# Altium schematic symbol library Labotronik.SchLib: 30 symbols
Pins are listed as number, name and electrical type; pins without a type are passive.

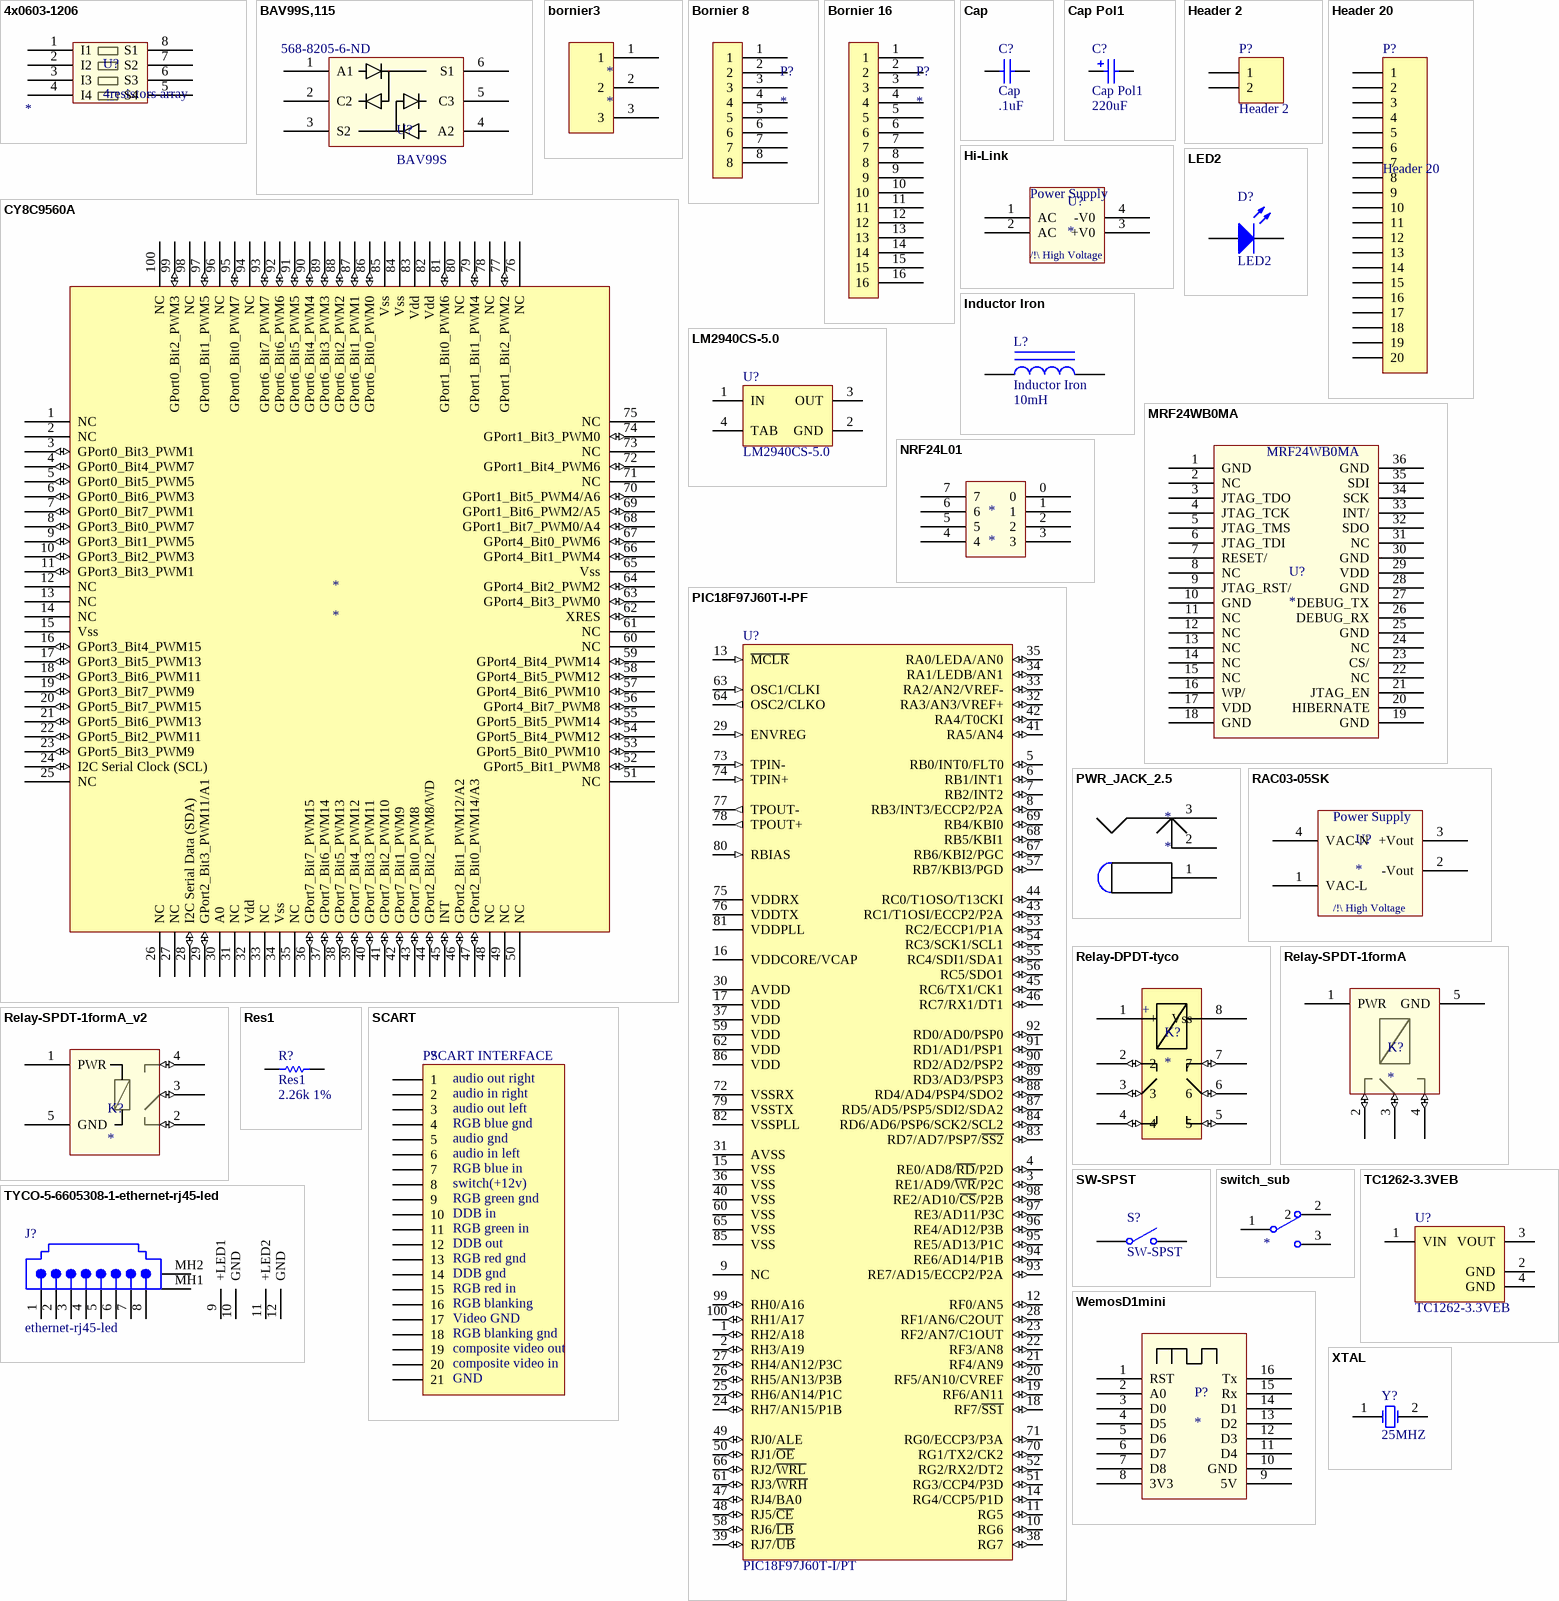
[diagram p0: symbols 4x0603-1206 to XTAL]

## 4x0603-1206
designator U?, comment 4resistors array
4x0603; Supplier Part Number 1: *; Value: *
footprint array 4x0603 (8 resitors  - 0602 x8)
pins: 1 I1, 2 I2, 3 I3, 4 I4, 5 S4, 6 S3, 7 S2, 8 S1

## BAV99S,115
designator U?, comment BAV99S  Supplier Part Number 1: 568-8205-6-ND
2 pair series diode; Supplier 1: Digi-Key
footprint SOT363-6N (SOT363, 6-Leads, Body 2x1.3mm, Pitch 0.65mm, Lead Span 2.1mm, IPC Medium Density)
footprint SOT363-6N (SOT363, 6-Leads, Body 2x1.3mm, Pitch 0.65mm, Lead Span 2.1mm, IPC Medium Density)
pins: 1 A1, 2 C2, 3 S2, 4 A2, 5 C3, 6 S1

## bornier3
designator *
pins: 1, 2, 3

## Bornier 8
designator P?
Bornier 8 - phoenix contact - 1990067
pins: 1, 2, 3, 4, 5, 6, 7, 8

## Bornier 16
designator P?
Bornier 16
pins: 1, 2, 3, 4, 5, 6, 7, 8, 9, 10, 11, 12, 13, 14, 15, 16

## Cap
designator C?  value .1uF
Capacitor; Published: 8-Jun-2000; LatestRevisionDate: 17-Jul-2002; LatestRevisionNote: Re-released for DXP Platform.; PackageReference: RAD-0.3; Publisher: Altium Limited
footprint RAD-0.3 (Radial Cap, Thru-Hole; 2 Leads; 0.3 in Pin Spacing)
footprint CAPR2.54-5.1x3.2 (Capacitor, Ceramic, Thru-Hole, Dipped Radial; Body 5.1 x 3.2 mm (WxT) Pin Spacing 2.54 mm (typ))
footprint CAPR5.08-7.8x3.2 (Capacitor, Ceramic, Thru-Hole, Dipped Radial; Body 7.8 x 3.2 mm (WxT) Pin Spacing 5.08 mm (typ))
simulation model CAP (Capacitor)
signal-integrity model Cap
pins: 1, 2

## Cap Pol1
designator C?  value 220uF
Polarized Capacitor (Radial); Published: 8-Jun-2000; LatestRevisionDate: 17-Jul-2002; LatestRevisionNote: Re-released for DXP Platform.; PackageReference: RB7.6-15; Publisher: Altium Limited
footprint RB7.6-15 (Polarized Capacitor (Radial); 2 Leads)
footprint CAPPR1.27-1.7x2.8 (Capacitor, Radial, Tantalum; Body 1.7 x 2.8 mm (Dia.xH max); Pin Spacing 1.27 mm (typ))
footprint CAPPR1.5-4x5 (Capacitor, Electrolytic, Radial; Body 4 x 5 mm (Dia.xH typ); Pin Spacing 1.5 mm (typ))
footprint CAPPR2-5x6.8 (Capacitor, Electrolytic, Radial; Body 5 x 6.8 mm (Dia.xH typ); Pin Spacing 2 mm (typ))
footprint CAPPR5-5x5 (Capacitor, Electrolytic, Radial; Body 5 x 5 mm (Dia.xH typ); Pin Spacing 5 mm (typ))
footprint CAPPR7.5-16x35 (Capacitor, Electrolytic, Radial; Body 16 x 35 mm (Dia.xH typ); Pin Spacing 7.5 mm (typ))
simulation model CAP (Capacitor)
signal-integrity model Cap Pol
pins: 1, 2
1 alternate drawing of the same symbol

## CY8C9560A
designator *
footprint TQFP-PF100_M (Thin QFP, 100-Leads, Body 14x14mm, Pitch 0.5mm, IPC Low Density)
pins: 1 NC, 2 NC, 3 GPort0_Bit3_PWM1 (io), 4 GPort0_Bit4_PWM7 (io), 5 GPort0_Bit5_PWM5 (io), 6 GPort0_Bit6_PWM3 (io), 7 GPort0_Bit7_PWM1 (io), 8 GPort3_Bit0_PWM7 (io), 9 GPort3_Bit1_PWM5 (io), 10 GPort3_Bit2_PWM3 (io), 11 GPort3_Bit3_PWM1 (io), 12 NC, 13 NC, 14 NC, 15 Vss, 16 GPort3_Bit4_PWM15 (io), 17 GPort3_Bit5_PWM13 (io), 18 GPort3_Bit6_PWM11 (io), 19 GPort3_Bit7_PWM9 (io), 20 GPort5_Bit7_PWM15 (io), 21 GPort5_Bit6_PWM13 (io), 22 GPort5_Bit2_PWM11 (io), 23 GPort5_Bit3_PWM9 (io), 24 I2C Serial Clock (SCL) (io), 25 NC, 26 NC, 27 NC, 28 I2C Serial Data (SDA) (io), 29 GPort2_Bit3_PWM11/A1 (io), 30 A0, 31 NC, 32 Vdd, 33 NC, 34 Vss, 35 NC, 36 GPort7_Bit7_PWM15 (io), 37 GPort7_Bit6_PWM14 (io), 38 GPort7_Bit5_PWM13 (io), 39 GPort7_Bit4_PWM12 (io), 40 GPort7_Bit3_PWM11 (io), 41 GPort7_Bit2_PWM10 (io), 42 GPort7_Bit1_PWM9 (io), 43 GPort7_Bit0_PWM8 (io), 44 GPort2_Bit2_PWM8/WD (io), 45 INT (io), 46 GPort2_Bit1_PWM12/A2 (io), 47 GPort2_Bit0_PWM14/A3 (io), 48 NC, 49 NC, 50 NC, 51 NC, 52 GPort5_Bit1_PWM8 (io), 53 GPort5_Bit0_PWM10 (io), 54 GPort5_Bit4_PWM12 (io), 55 GPort5_Bit5_PWM14 (io), 56 GPort4_Bit7_PWM8 (io), 57 GPort4_Bit6_PWM10 (io), 58 GPort4_Bit5_PWM12 (io), 59 GPort4_Bit4_PWM14 (io), 60 NC, 61 NC, 62 XRES (io), 63 GPort4_Bit3_PWM0 (io), 64 GPort4_Bit2_PWM2 (io), 65 Vss, 66 GPort4_Bit1_PWM4 (io), 67 GPort4_Bit0_PWM6 (io), 68 GPort1_Bit7_PWM0/A4 (io), 69 GPort1_Bit6_PWM2/A5 (io), 70 GPort1_Bit5_PWM4/A6 (io), 71 NC, 72 GPort1_Bit4_PWM6 (io), 73 NC, 74 GPort1_Bit3_PWM0 (io), 75 NC, 76 NC, 77 GPort1_Bit2_PWM2 (io), 78 NC, 79 GPort1_Bit1_PWM4 (io), 80 NC, 81 GPort1_Bit0_PWM6 (io), 82 Vdd, 83 Vdd, 84 Vss, 85 Vss, 86 GPort6_Bit0_PWM0 (io), 87 GPort6_Bit1_PWM1 (io), 88 GPort6_Bit2_PWM2 (io), 89 GPort6_Bit3_PWM3 (io), 90 GPort6_Bit4_PWM4 (io), 91 GPort6_Bit5_PWM5 (io), 92 GPort6_Bit6_PWM6 (io), 93 GPort6_Bit7_PWM7 (io), 94 NC, 95 GPort0_Bit0_PWM7 (io), 96 NC, 97 GPort0_Bit1_PWM5 (io), 98 NC, 99 GPort0_Bit2_PWM3 (io), 100 NC

## Header 2
designator P?
Header, 2-Pin; LatestRevisionDate: 17-Jul-2002; LatestRevisionNote: Re-released for DXP Platform.; Publisher: Altium Limited
footprint HDR1X2 (Connector; Header; 2 Position)
signal-integrity model Connector
footprint HEADER-1x2-ED2427 (bornier 1x2 ref.ED2427)
3D model Model Name (Model Description)
pins: 1, 2

## Header 20
designator P?
Header, 20-Pin; LatestRevisionDate: 17-Jul-2002; LatestRevisionNote: Re-released for DXP Platform.; Publisher: Altium Limited
footprint HDR1X6 (Connector; Header; 6 Position)
signal-integrity model Connector
pins: 1, 2, 3, 4, 5, 6, 7, 8, 9, 10, 11, 12, 13, 14, 15, 16, 17, 18, 19, 20

## Hi-Link
designator U?
HLK-5M12 - Hi-Link 220vAC to 12VDC module
pins: 1 AC, 2 AC, 3 +V0, 4 -V0
text: Power Supply; /!\ High Voltage

## Inductor Iron
designator L?  value 10mH
Magnetic-Core Inductor; Published: 24-Mar-1999; LatestRevisionDate: 17-Jul-2002; LatestRevisionNote: Re-released for DXP Platform.; PackageReference: AXIAL-0.9; Publisher: Altium Limited
footprint AXIAL-0.9 (Axial Device, Thru-Hole; 2 Leads; 0.9 in Pin Spacing)
simulation model INDUCTOR (Inductor)
signal-integrity model Inductor Iron
pins: 1, 2

## LED2
designator D?
Typical RED, GREEN, YELLOW, AMBER GaAs LED; Published: 8-Jun-2000; LatestRevisionDate: 17-Jul-2002; LatestRevisionNote: Re-released for DXP Platform.; PackageVersion: Feb-2002; PackageReference: 3.2X1.6X1.1; Publisher: Altium Limited
footprint DSO-F2/D6.1 (SMT LED; 2 Flat Leads)
simulation model LED2 (Diode)
footprint LED 0805 (led CMS 0805)
pins: 1 A, 2 K

## LM2940CS-5.0
designator U?
1A Low Dropout Regulator; Manufacturer: National Semiconductor; CompType: LDO IC; PackageTopMarking: NSUZXYTTE#*LM2940CS*-5.0 P+; PowerWise: N; Published: 4-Dec-2008; DatasheetVersion: Jan-2007; PackageVersion: revF, Apr-2005; PackageReference: TS3B; Publisher: Altium Limited; PackageDescription: TO-263, Molded, .400 x .390 x .180in, 3 Lead, .1in Pitch, Surface Mount; PartNumber: LM2940CS-5.0; RoHS: O; PinCount: 3; DigiKeyPartNumber: LM2940CS-5.0-ND; Code_JEDEC: MO-169-AA; ComponentLink1Description: LM2940C Datasheet; ComponentLink1URL: http://www.national.com/ds/LM/LM2940C.pdf; ComponentLink2Description: LM2940C Web Page; ComponentLink2URL: http://www.national.com/pf/LM/LM2940C.html; ComponentLink3Description: TS3B Package Page; ComponentLink3URL: http://www.national.com/packaging/folders/ts3b.html
footprint TS3B_N (D2-PAK, 4-Leads, Body 8.6x10.2mm, Pitch 2.54mm, Lead Span 14.2mm, IPC Medium Density)
footprint TS3B_L (D2-PAK, 4-Leads, Body 8.6x10.2mm, Pitch 2.54mm, Lead Span 14.2mm, IPC High Density)
footprint TS3B_M (D2-PAK, 4-Leads, Body 8.6x10.2mm, Pitch 2.54mm, Lead Span 14.2mm, IPC Low Density)
pins: 1 IN (power), 2 GND (power), 3 OUT (power), 4 TAB (power)

## MRF24WB0MA
designator U?
WIFI Module
footprint MRF24WB0MA
pins: 1 GND (power), 2 NC, 3 JTAG_TDO, 4 JTAG_TCK, 5 JTAG_TMS, 6 JTAG_TDI, 7 RESET/, 8 NC, 9 JTAG_RST/, 10 GND, 11 NC, 12 NC, 13 NC, 14 NC, 15 NC, 16 WP/, 17 VDD, 18 GND, 19 GND, 20 HIBERNATE, 21 JTAG_EN, 22 NC, 23 CS/, 24 NC, 25 GND, 26 DEBUG_RX, 27 DEBUG_TX, 28 GND, 29 VDD, 30 GND, 31 NC, 32 SDO, 33 INT/, 34 SCK, 35 SDI, 36 GND (power)

## NRF24L01
designator *
pins: 0, 1, 2, 3, 4, 5, 6, 7

## PIC18F97J60T-I-PF
designator U?, comment PIC18F97J60T-I/PT
1-Mbit Flash Microcontroller with Ethernet, 128K Flash, 100-Pin TQFP; Published: 29-Jan-2009; DatasheetVersion: revD, Feb-2008; PackageVersion: revAW, Oct-2008; PackageReference: TQFP-PT100; Publisher: Altium Limited; PackageDescription: 100-Lead Plastic Thin Quad Flatpack (PT) - 12x12x1mm Body, 2.00mm [TQFP]; ComponentLink1Description: Manufacturer Link; ComponentLink1URL: http://www.microchip.com; ComponentLink2Description: Datasheet; ComponentLink2URL: http://ww1.microchip.com/downloads/en/DeviceDoc/39762d.pdf; ComponentLink3Description: Packaging Specification; ComponentLink3URL: http://ww1.microchip.com/downloads/en/PackagingSpec/00049AW.pdf
footprint TQFP-PT100_N (Thin QFP, 100-Leads, Body 12x12mm, Pitch 0.4mm, IPC Medium Density)
footprint TQFP-PT100_L (Thin QFP, 100-Leads, Body 12x12mm, Pitch 0.4mm, IPC High Density)
footprint TQFP-PT100_M (Thin QFP, 100-Leads, Body 12x12mm, Pitch 0.4mm, IPC Low Density)
pins: 1 RH2/A18 (io), 2 RH3/A19 (io), 3 RE1/AD9/~{WR}/P2C (io), 4 RE0/AD8/~{RD}/P2D (io), 5 RB0/INT0/FLT0 (io), 6 RB1/INT1 (io), 7 RB2/INT2 (io), 8 RB3/INT3/ECCP2/P2A (io), 9 NC, 10 RG6 (io), 11 RG5 (io), 12 RF0/AN5 (io), 13 ~{MCLR} (in), 14 RG4/CCP5/P1D (io), 15 VSS (power), 16 VDDCORE/VCAP (power), 17 VDD (power), 18 RF7/~{SS1} (io), 19 RF6/AN11 (io), 20 RF5/AN10/CVREF (io), 21 RF4/AN9 (io), 22 RF3/AN8 (io), 23 RF2/AN7/C1OUT (io), 24 RH7/AN15/P1B (io), 25 RH6/AN14/P1C (io), 26 RH5/AN13/P3B (io), 27 RH4/AN12/P3C (io), 28 RF1/AN6/C2OUT (io), 29 ENVREG (in), 30 AVDD (power), 31 AVSS (power), 32 RA3/AN3/VREF+ (io), 33 RA2/AN2/VREF- (io), 34 RA1/LEDB/AN1 (io), 35 RA0/LEDA/AN0 (io), 36 VSS (power), 37 VDD (power), 38 RG7 (io), 39 RJ7/~{UB} (io), 40 VSS (power), 41 RA5/AN4 (io), 42 RA4/T0CKI (io), 43 RC1/T1OSI/ECCP2/P2A (io), 44 RC0/T1OSO/T13CKI (io), 45 RC6/TX1/CK1 (io), 46 RC7/RX1/DT1 (io), 47 RJ4/BA0 (io), 48 RJ5/~{CE} (io), 49 RJ0/ALE (io), 50 RJ1/~{OE} (io), 51 RG3/CCP4/P3D (io), 52 RG2/RX2/DT2 (io), 53 RC2/ECCP1/P1A (io), 54 RC3/SCK1/SCL1 (io), 55 RC4/SDI1/SDA1 (io), 56 RC5/SDO1 (io), 57 RB7/KBI3/PGD (io), 58 RJ6/~{LB} (io), 59 VDD (power), 60 VSS (power), 61 RJ3/~{WRH} (io), 62 VDD (power), 63 OSC1/CLKI (in), 64 OSC2/CLKO (out), 65 VSS (power), 66 RJ2/~{WRL} (io), 67 RB6/KBI2/PGC (io), 68 RB5/KBI1 (io), 69 RB4/KBI0 (io), 70 RG1/TX2/CK2 (io), 71 RG0/ECCP3/P3A (io), 72 VSSRX (power), 73 TPIN- (in), 74 TPIN+ (in), 75 VDDRX (power), 76 VDDTX (power), 77 TPOUT- (out), 78 TPOUT+ (out), 79 VSSTX (power), 80 RBIAS (in), 81 VDDPLL (power), 82 VSSPLL (power), 83 RD7/AD7/PSP7/~{SS2} (io), 84 RD6/AD6/PSP6/SCK2/SCL2 (io), 85 VSS (power), 86 VDD (power), 87 RD5/AD5/PSP5/SDI2/SDA2 (io), 88 RD4/AD4/PSP4/SDO2 (io), 89 RD3/AD3/PSP3 (io), 90 RD2/AD2/PSP2 (io), 91 RD1/AD1/PSP1 (io), 92 RD0/AD0/PSP0 (io), 93 RE7/AD15/ECCP2/P2A (io), 94 RE6/AD14/P1B (io), 95 RE5/AD13/P1C (io), 96 RE4/AD12/P3B (io), 97 RE3/AD11/P3C (io), 98 RE2/AD10/~{CS}/P2B (io), 99 RH0/A16 (io), 100 RH1/A17 (io)

## PWR_JACK_2.5
designator *
pins: 1, 2, 3

## RAC03-05SK
designator U?
RECOM 220vAC to 5VDC module
pins: 1 VAC-L, 2 -Vout, 3 +Vout, 4 VAC-N
text: Power Supply; /!\ High Voltage

## Relay-DPDT-tyco
designator K?
Relay SMC tyco; name: *
footprint realy_DPDT_tyco
footprint realy_DPDT_tyco - through hole (IM03 TS - through hole version - standard)
pins: 1 + (power), 2 (io), 3 (io), 4 (io), 5 (io), 6 (io), 7 (io), 8 Vss (oc)

## Relay-SPDT-1formA
designator K?
Relay SMC tyco; name: *
pins: 1 PWR (power), 2 (io) "NC", 3 (io) "COMMUN", 4 (io) "NO", 5 GND (power)

## Relay-SPDT-1formA_v2
designator K?
Relay SMC tyco; name: *
pins: 1 PWR (power), 2 (io) "NC", 3 (io) "COMMUN", 4 (io) "NO", 5 GND (power)

## Res1
designator R?  value 2.26k 1%
Resistor; Published: 8-Jun-2000; LatestRevisionDate: 17-Jul-2002; LatestRevisionNote: Re-released for DXP Platform.; PackageReference: AXIAL-0.3; Publisher: Altium Limited
footprint AXIAL-0.3 (Axial Device, Thru-Hole; 2 Leads; 0.3 in Pin Spacing)
simulation model RESISTOR (Resistor)
signal-integrity model Res
pins: 1, 2

## SCART
designator P?
scart 21 pin; LatestRevisionDate: 17-Jul-2002; LatestRevisionNote: Re-released for DXP Platform.; Publisher: Altium Limited
footprint HDR1X6 (Connector; Header; 6 Position)
signal-integrity model Connector
pins: 1, 2, 3, 4, 5, 6, 7, 8, 9, 10, 11, 12, 13, 14, 15, 16, 17, 18, 19, 20, 21
text: SCART INTERFACE; audio out right; audio in right; audio out left; RGB blue gnd; audio gnd; audio in left; RGB blue in; switch(+12v); RGB green gnd; DDB in; RGB green in; DDB out; RGB red gnd; DDB gnd; RGB red in; RGB blanking; Video GND; RGB blanking gnd; composite video out; composite video in; GND

## SW-SPST
designator S?
Single-Pole, Single-Throw Switch; Published: 24-Mar-1999; LatestRevisionDate: 17-Jul-2002; LatestRevisionNote: Re-released for DXP Platform.; PackageReference: SPST-2; Publisher: Altium Limited
footprint SPST-2 (Single-Pole, Single-Throw Switch; 2 Leads)
pins: 1 COMMON, 2 NO

## switch_sub
designator sw
footprint subminiature-switch-V
pins: 1, 2, 3

## TC1262-3.3VEB
designator U?
500mA Fixed Output CMOS LDO, 3-Pin DDPAK, Extended Temperature; Published: 29-Jan-2009; DatasheetVersion: revB, 2002; PackageVersion: revAW, Oct-2008; PackageReference: DDPAK-EB3; Publisher: Altium Limited; PackageDescription: 3-Lead Plastic (EB) [DDPAK]; ComponentLink1Description: Manufacturer Link; ComponentLink1URL: http://www.microchip.com; ComponentLink2Description: Datasheet; ComponentLink2URL: http://ww1.microchip.com/downloads/en/DeviceDoc/21373b.pdf; ComponentLink3Description: Packaging Specification; ComponentLink3URL: http://ww1.microchip.com/downloads/en/PackagingSpec/00049AW.pdf
footprint DDPAK-EB3_N (D2-PAK, 4-Leads, Body 9x10.2mm, Pitch 2.54mm, Lead Span 14.9mm, IPC Medium Density)
footprint DDPAK-EB3_L (D2-PAK, 4-Leads, Body 9x10.2mm, Pitch 2.54mm, Lead Span 14.9mm, IPC High Density)
footprint DDPAK-EB3_M (D2-PAK, 4-Leads, Body 9x10.2mm, Pitch 2.54mm, Lead Span 14.9mm, IPC Low Density)
pins: 1 VIN (power), 2 GND (power), 3 VOUT (power), 4 GND (power)

## TYCO-5-6605308-1-ethernet-rj45-led
designator J?, comment ethernet-rj45-led
Right Angle, Ultra Low Profile PCB Jack, with offset Panel Grounding Tabs, Shielded Version; Ports: 1; Positions/Loaded: Port1 - 8/8; PerformanceCategory: 3/4; PCB_Mounting: Thru-Hole; DrillSize: Nominal, Rounded to nearest 0.05mm; PCB_Layout: Complies with Manufacturer's Recommendation.; Published: 25-Jun-2002; DatasheetDocument: 18-Dec-2001; PackageDocument: 18-Dec-2001; PackageReference: 43202-8926; Publisher: Altium Limited; ComponentLink1Description: Manufacturer Link; ComponentLink1URL: http://www.molex.com/; ComponentLink2Description: Datasheet; ComponentLink2URL: http://www.molex.com/cmc_upload/common_files/1212003_43202catalogpage.pdf
signal-integrity model Modular Jack
footprint ethernet-5-6605308-1 (Connector; PCB Jack, ethernet; 2 led; tyco; Right Angle)
pins: 1, 2, 3, 4, 5, 6, 7, 8, 9 +LED1, 10 GND, 11 +LED2, 12 GND, MH1 Shield, MH2 Shield

## WemosD1mini
designator P?
Wemos D1 Mini
pins: 1 RST, 2 A0, 3 D0, 4 D5, 5 D6, 6 D7, 7 D8, 8 3V3, 9 5V, 10 GND, 11 D4, 12 D3, 13 D2, 14 D1, 15 Rx, 16 Tx

## XTAL
designator Y?, comment 25MHZ
Crystal Oscillator; Published: 8-Jun-2000; LatestRevisionDate: 17-Jul-2002; LatestRevisionNote: Re-released for DXP Platform.; PackageReference: R38; Publisher: Altium Limited
footprint BCY-W2/D3.1 (Crystal, Thru-Hole; 2 Leads; Body 3.1 x 8.2 mm (Dia.xH))
simulation model XTAL (Spice Subcircuit)
pins: 1 OSC1, 2 OSC2